# Altium schematic symbol library RA-02.SchLib: 1 symbol
Pins are listed as number, name and electrical type; pins without a type are passive.

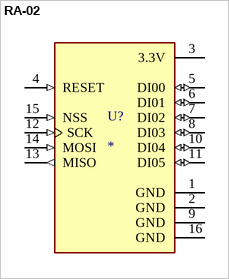
[diagram p0: symbol RA-02]

## RA-02
designator U?
General ISM < 1GHz LoRaâ„¢ Transceiver Module 410MHz ~ 525MHz Antenna Not Included, I-PEX Surface Mount; MF: Ai-Thinker; MP: RA-02; SnapEDA_Link: https://www.snapeda.com/parts/RA-02/AI-Thinker/view-part/?ref=snap; Package: None; Value: *; Check_prices: https://www.snapeda.com/parts/RA-02/AI-Thinker/view-part/?ref=eda
footprint RA-02
pins: 1 GND (power), 2 GND (power), 3 3.3V (power), 4 RESET (in), 5 DI00 (io), 6 DI01 (io), 7 DI02 (io), 8 DI03 (io), 9 GND (power), 10 DI04 (io), 11 DI05 (io), 12 SCK (in), 13 MISO (out), 14 MOSI (in), 15 NSS (in), 16 GND (power)